# Altium schematic symbol library NJM7805FA.SchLib: 1 symbol
Pins are listed as number, name and electrical type; pins without a type are passive.

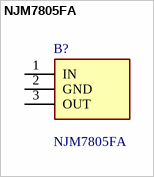
[diagram p0: symbol NJM7805FA]

## NJM7805FA
designator B?
Linear Voltage Regulators 5V 1.5A 3 Terminal; Manufacturer_Name: New Japan Radio; Geometry.Height: 5mm; RS Part Number: 6571003; RS Price/Stock: https://uk.rs-online.com/web/p/products/6571003; Manufacturer_Part_Number: NJM7805FA; Datasheet Link: https://datasheet.datasheetarchive.com/originals/distributors/Datasheets-DGA25/1772503.pdf
footprint TO254P500X1000X2170-3P
pins: 1 IN, 2 GND, 3 OUT